# EAGLE library part USB_MICRO_AB (library connectors)
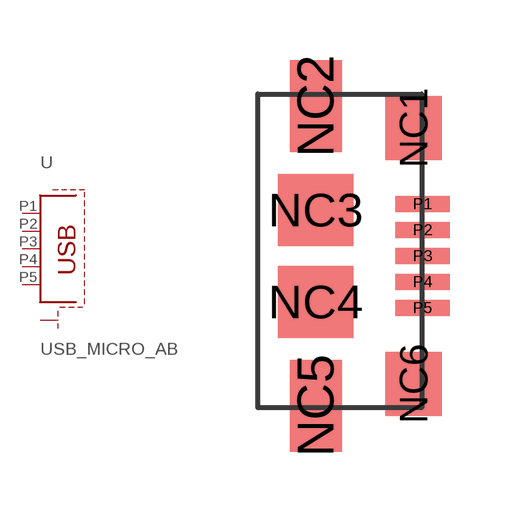
[diagram p66: symbol with the pads of USB_MICRO_AB; footprint USB_MICRO_AB]

Designator prefix -

## USB_MICRO_AB  [USB_MICRO_AB]
NC1  S1  pas
NC2  S1  pas
NC3  S1  pas
NC4  S1  pas
NC5  S1  pas
NC6  S1  pas
P1  1  pas
P2  2  pas
P3  3  pas
P4  4  pas
P5  5  pas

## Footprint USB_MICRO_AB (pad centres in mm)
smd 1.4 x 1.6: NC1 -0.9,3.2; NC6 -0.9,-3.2
smd 1.3 x 2.3: NC2 -3.35,3.75; NC5 -3.35,-3.75
smd 1.9 x 1.8: NC3 -3.35,1.15; NC4 -3.35,-1.15
smd 1.35 x 0.4: P1 -0.675,1.3; P2 -0.675,0.65; P3 -0.675,0; P4 -0.675,-0.65; P5 -0.675,-1.3